# Altium integrated library Diodes - TVS.IntLib: 5379 symbols (part 45 of 122)
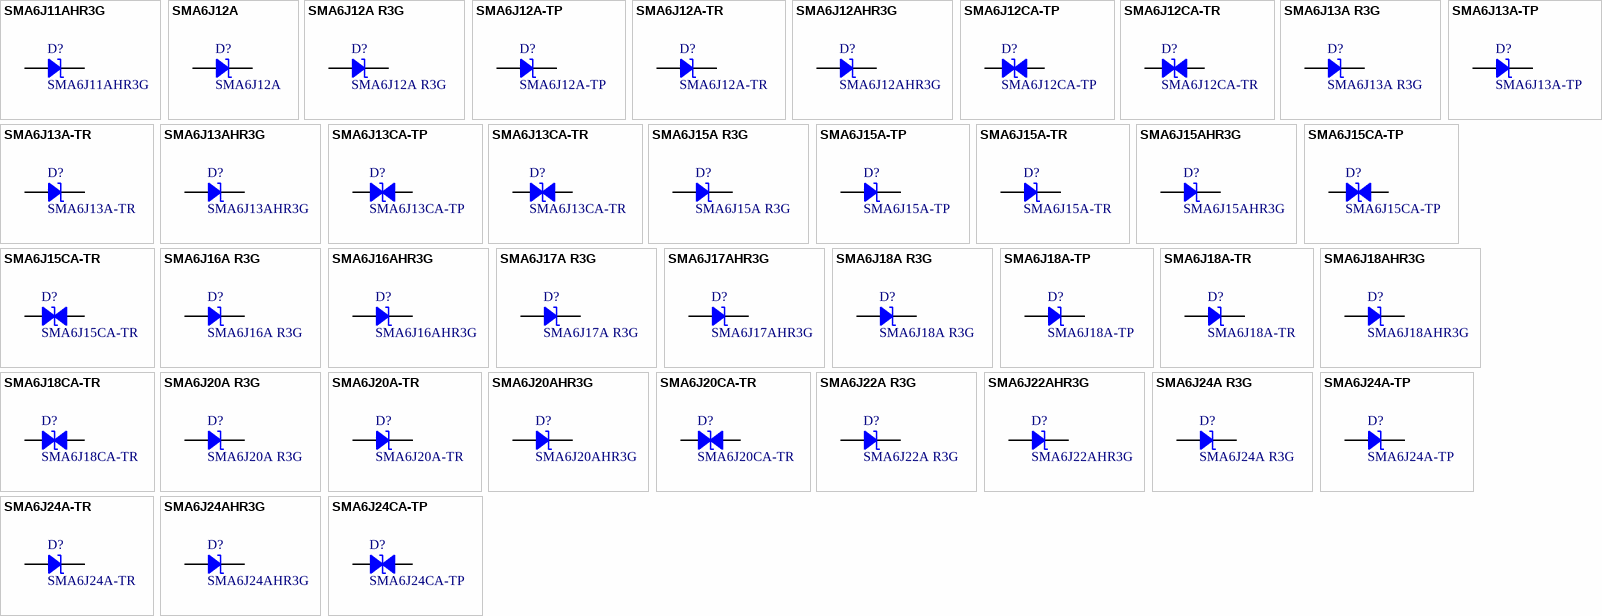
[diagram p178: symbols SMA6J11AHR3G to SMA6J24CA-TP]

## SMA6J15A-TR
designator D?
TVS DIODE 15V 27.7V SMA; Manufacturer: STMicroelectronics; Current - Peak Pulse (10/1000µs): 123A (8/20µs); Power Line Protection: No; Power - Peak Pulse: 600W; Type: Zener; Unidirectional Channels: 1; Voltage - Breakdown (Min): 16.7V; Part Number: SMA6J15A-TR; Applications: General Purpose; ComponentLink1Description: Datasheet; ComponentLink1URL: http://www.st.com/content/ccc/resource/technical/document/datasheet/56/26/d7/6f/22/8c/4e/b3/CD00152688.pdf/files/CD00152688.pdf/_jcr_content/translations/en.CD00152688.pdf; ComponentLink2Description: DigiKey Link; ComponentLink2URL: http://digikey.com/product-detail/en/stmicroelectronics/SMA6J15A-TR/497-5921-1-ND/1578427; LastUpdated: 9/2/2020 1:20:18 AM; Lifecycle Status: Active; Minimum Order: 1; Mounting Type: Surface Mount; Operating Temperature: -55°C ~ 175°C (TJ); Package / Case: DO-214AC, SMA; Packaging: TapeAndReel; PartId: 6136; Part Status: Active; Price: 0.18; Series: SMA6J, TRANSIL™; Supplier 1: DigiKey; Supplier Part Number 1: 497-5921-1-ND; Supplier Device Package: SMA (DO-214AC); Voltage - Clamping (Max) @ Ipp: 27.7V; Voltage - Reverse Standoff (Typ): 15V
footprint DO214AC SMA
pins: 1, 2

## SMA6J15AHR3G
designator D?
TVS DIODE 15V 23.6V DO214AC; Manufacturer: Taiwan Semiconductor Corporation; Current - Peak Pulse (10/1000µs): 25.4A; Power Line Protection: No; Power - Peak Pulse: 600W; Type: Zener; Unidirectional Channels: 1; Voltage - Breakdown (Min): 16.7V; Part Number: SMA6J15AHR3G; Applications: Automotive; ComponentLink1Description: Datasheet; ComponentLink1URL: https://www.taiwansemi.com/products/datasheet/SMA6J%20SERIES_D15.pdf; ComponentLink2Description: DigiKey Link; ComponentLink2URL: http://digikey.com/product-detail/en/taiwan-semiconductor-corporation/SMA6J15AHR3G/SMA6J15AHR3GCT-ND/7358724; LastUpdated: 9/2/2020 1:20:13 AM; Lifecycle Status: Active; Minimum Order: 1; Mounting Type: Surface Mount; Operating Temperature: -55°C ~ 175°C (TJ); Package / Case: DO-214AC, SMA; Packaging: TapeAndReel; PartId: 5579; Part Status: Active; Price: 0.13; Series: Automotive, AEC-Q101, SMA6J; Supplier 1: DigiKey; Supplier Part Number 1: SMA6J15AHR3GCT-ND; Supplier Device Package: DO-214AC (SMA); Voltage - Clamping (Max) @ Ipp: 23.6V; Voltage - Reverse Standoff (Typ): 15V
footprint DO214AC SMA
pins: 1, 2

## SMA6J15CA-TP
designator D?
TVS DIODE 15V 24.4V DO214AC; Manufacturer: Micro Commercial Co; Bidirectional Channels: 1; Current - Peak Pulse (10/1000µs): 24.6A; Power Line Protection: No; Power - Peak Pulse: 600W; Type: Zener; Voltage - Breakdown (Min): 16.7V; Part Number: SMA6J15CA-TP; Applications: General Purpose; ComponentLink1Description: Datasheet; ComponentLink1URL: https://www.mccsemi.com/pdf/Products/SMA6J5.0A~SMA6J33A(SMA).pdf; ComponentLink2Description: DigiKey Link; ComponentLink2URL: http://digikey.com/product-detail/en/micro-commercial-co/SMA6J15CA-TP/SMA6J15CA-TPMSCT-ND/2625100; LastUpdated: 9/2/2020 1:27:50 AM; Lifecycle Status: Active; Minimum Order: 1; Mounting Type: Surface Mount; Operating Temperature: -55°C ~ 175°C (TA); Package / Case: DO-214AC, SMA; Packaging: TapeAndReel; PartId: 7304; Part Status: Active; Price: 0.10; Series: -; Supplier 1: DigiKey; Supplier Part Number 1: SMA6J15CA-TPMSCT-ND; Supplier Device Package: DO-214AC (SMA); Voltage - Clamping (Max) @ Ipp: 24.4V; Voltage - Reverse Standoff (Typ): 15V
footprint DO214AC SMA
pins: 1, 2

## SMA6J15CA-TR
designator D?
TVS DIODE 15V 27.7V SMA; Manufacturer: STMicroelectronics; Bidirectional Channels: 1; Current - Peak Pulse (10/1000µs): 123A (8/20µs); Power Line Protection: No; Power - Peak Pulse: 600W; Type: Zener; Voltage - Breakdown (Min): 16.7V; Part Number: SMA6J15CA-TR; Applications: General Purpose; ComponentLink1Description: Datasheet; ComponentLink1URL: http://www.st.com/content/ccc/resource/technical/document/datasheet/56/26/d7/6f/22/8c/4e/b3/CD00152688.pdf/files/CD00152688.pdf/_jcr_content/translations/en.CD00152688.pdf; ComponentLink2Description: DigiKey Link; ComponentLink2URL: http://digikey.com/product-detail/en/stmicroelectronics/SMA6J15CA-TR/497-5922-1-ND/1578428; LastUpdated: 9/2/2020 1:27:51 AM; Lifecycle Status: Active; Minimum Order: 1; Mounting Type: Surface Mount; Operating Temperature: -55°C ~ 175°C (TJ); Package / Case: DO-214AC, SMA; Packaging: TapeAndReel; PartId: 7386; Part Status: Active; Price: 0.17; Series: SMA6J, TRANSIL™; Supplier 1: DigiKey; Supplier Part Number 1: 497-5922-1-ND; Supplier Device Package: SMA (DO-214AC); Voltage - Clamping (Max) @ Ipp: 27.7V; Voltage - Reverse Standoff (Typ): 15V
footprint DO214AC SMA
pins: 1, 2

## SMA6J16A R3G
designator D?
TVS DIODE 16V 25.2V DO214AC; Manufacturer: Taiwan Semiconductor Corporation; Current - Peak Pulse (10/1000µs): 23.8A; Power Line Protection: No; Power - Peak Pulse: 600W; Type: Zener; Unidirectional Channels: 1; Voltage - Breakdown (Min): 17.8V; Part Number: SMA6J16A R3G; Applications: General Purpose; ComponentLink1Description: Datasheet; ComponentLink1URL: https://www.taiwansemi.com/products/datasheet/SMA6J%20SERIES_D15.pdf; ComponentLink2Description: DigiKey Link; ComponentLink2URL: http://digikey.com/product-detail/en/taiwan-semiconductor-corporation/SMA6J16A-R3G/SMA6J16AR3GCT-ND/7358727; LastUpdated: 9/2/2020 1:20:16 AM; Lifecycle Status: Active; Minimum Order: 1; Mounting Type: Surface Mount; Operating Temperature: -55°C ~ 175°C (TJ); Package / Case: DO-214AC, SMA; Packaging: TapeAndReel; PartId: 5922; Part Status: Active; Price: 0.12; Series: SMA6J; Supplier 1: DigiKey; Supplier Part Number 1: SMA6J16AR3GCT-ND; Supplier Device Package: DO-214AC (SMA); Voltage - Clamping (Max) @ Ipp: 25.2V; Voltage - Reverse Standoff (Typ): 16V
footprint DO214AC SMA
pins: 1, 2

## SMA6J16AHR3G
designator D?
TVS DIODE 16V 25.2V DO214AC; Manufacturer: Taiwan Semiconductor Corporation; Current - Peak Pulse (10/1000µs): 23.8A; Power Line Protection: No; Power - Peak Pulse: 600W; Type: Zener; Unidirectional Channels: 1; Voltage - Breakdown (Min): 17.8V; Part Number: SMA6J16AHR3G; Applications: Automotive; ComponentLink1Description: Datasheet; ComponentLink1URL: https://www.taiwansemi.com/products/datasheet/SMA6J%20SERIES_D15.pdf; ComponentLink2Description: DigiKey Link; ComponentLink2URL: http://digikey.com/product-detail/en/taiwan-semiconductor-corporation/SMA6J16AHR3G/SMA6J16AHR3GCT-ND/7358730; LastUpdated: 9/2/2020 1:20:16 AM; Lifecycle Status: Active; Minimum Order: 1; Mounting Type: Surface Mount; Operating Temperature: -55°C ~ 175°C (TJ); Package / Case: DO-214AC, SMA; Packaging: TapeAndReel; PartId: 5969; Part Status: Active; Price: 0.13; Series: Automotive, AEC-Q101, SMA6J; Supplier 1: DigiKey; Supplier Part Number 1: SMA6J16AHR3GCT-ND; Supplier Device Package: DO-214AC (SMA); Voltage - Clamping (Max) @ Ipp: 25.2V; Voltage - Reverse Standoff (Typ): 16V
footprint DO214AC SMA
pins: 1, 2

## SMA6J17A R3G
designator D?
TVS DIODE 17V 26.7V DO214AC; Manufacturer: Taiwan Semiconductor Corporation; Current - Peak Pulse (10/1000µs): 22.5A; Power Line Protection: No; Power - Peak Pulse: 600W; Type: Zener; Unidirectional Channels: 1; Voltage - Breakdown (Min): 18.9V; Part Number: SMA6J17A R3G; Applications: General Purpose; ComponentLink1Description: Datasheet; ComponentLink1URL: https://www.taiwansemi.com/products/datasheet/SMA6J%20SERIES_D15.pdf; ComponentLink2Description: DigiKey Link; ComponentLink2URL: http://digikey.com/product-detail/en/taiwan-semiconductor-corporation/SMA6J17A-R3G/SMA6J17AR3GCT-ND/7358733; LastUpdated: 9/2/2020 1:20:16 AM; Lifecycle Status: Active; Minimum Order: 0; Mounting Type: Surface Mount; Operating Temperature: -55°C ~ 175°C (TJ); Package / Case: DO-214AC, SMA; Packaging: TapeAndReel; PartId: 5919; Part Status: Active; Price: 0.12; Series: SMA6J; Supplier 1: DigiKey; Supplier Part Number 1: SMA6J17AR3GCT-ND; Supplier Device Package: DO-214AC (SMA); Voltage - Clamping (Max) @ Ipp: 26.7V; Voltage - Reverse Standoff (Typ): 17V
footprint DO214AC SMA
pins: 1, 2

## SMA6J17AHR3G
designator D?
TVS DIODE 17V 26.7V DO214AC; Manufacturer: Taiwan Semiconductor Corporation; Current - Peak Pulse (10/1000µs): 22.5A; Power Line Protection: No; Power - Peak Pulse: 600W; Type: Zener; Unidirectional Channels: 1; Voltage - Breakdown (Min): 18.9V; Part Number: SMA6J17AHR3G; Applications: Automotive; ComponentLink1Description: Datasheet; ComponentLink1URL: https://www.taiwansemi.com/products/datasheet/SMA6J%20SERIES_D15.pdf; ComponentLink2Description: DigiKey Link; ComponentLink2URL: http://digikey.com/product-detail/en/taiwan-semiconductor-corporation/SMA6J17AHR3G/SMA6J17AHR3GCT-ND/7358736; LastUpdated: 9/2/2020 1:20:16 AM; Lifecycle Status: Active; Minimum Order: 1; Mounting Type: Surface Mount; Operating Temperature: -55°C ~ 175°C (TJ); Package / Case: DO-214AC, SMA; Packaging: TapeAndReel; PartId: 5916; Part Status: Active; Price: 0.13; Series: Automotive, AEC-Q101, SMA6J; Supplier 1: DigiKey; Supplier Part Number 1: SMA6J17AHR3GCT-ND; Supplier Device Package: DO-214AC (SMA); Voltage - Clamping (Max) @ Ipp: 26.7V; Voltage - Reverse Standoff (Typ): 17V
footprint DO214AC SMA
pins: 1, 2

## SMA6J18A R3G
designator D?
TVS DIODE 18V 28.3V DO214AC; Manufacturer: Taiwan Semiconductor Corporation; Current - Peak Pulse (10/1000µs): 21.2A; Power Line Protection: No; Power - Peak Pulse: 600W; Type: Zener; Unidirectional Channels: 1; Voltage - Breakdown (Min): 20V; Part Number: SMA6J18A R3G; Applications: General Purpose; ComponentLink1Description: Datasheet; ComponentLink1URL: https://www.taiwansemi.com/products/datasheet/SMA6J%20SERIES_D15.pdf; ComponentLink2Description: DigiKey Link; ComponentLink2URL: http://digikey.com/product-detail/en/taiwan-semiconductor-corporation/SMA6J18A-R3G/SMA6J18AR3GCT-ND/7358739; LastUpdated: 9/2/2020 1:20:16 AM; Lifecycle Status: Active; Minimum Order: 1; Mounting Type: Surface Mount; Operating Temperature: -55°C ~ 175°C (TJ); Package / Case: DO-214AC, SMA; Packaging: TapeAndReel; PartId: 5891; Part Status: Active; Price: 0.12; Series: SMA6J; Supplier 1: DigiKey; Supplier Part Number 1: SMA6J18AR3GCT-ND; Supplier Device Package: DO-214AC (SMA); Voltage - Clamping (Max) @ Ipp: 28.3V; Voltage - Reverse Standoff (Typ): 18V
footprint DO214AC SMA
pins: 1, 2

## SMA6J18A-TP
designator D?
TVS DIODE 18V 29.2V DO214AC; Manufacturer: Micro Commercial Co; Current - Peak Pulse (10/1000µs): 20.5A; Power Line Protection: No; Power - Peak Pulse: 600W; Type: Zener; Unidirectional Channels: 1; Voltage - Breakdown (Min): 20V; Part Number: SMA6J18A-TP; Applications: General Purpose; ComponentLink1Description: Datasheet; ComponentLink1URL: https://www.mccsemi.com/pdf/Products/SMA6J5.0A~SMA6J33A(SMA).pdf; ComponentLink2Description: DigiKey Link; ComponentLink2URL: http://digikey.com/product-detail/en/micro-commercial-co/SMA6J18A-TP/SMA6J18A-TPMSCT-ND/2625102; LastUpdated: 9/2/2020 1:20:13 AM; Lifecycle Status: Active; Minimum Order: 1; Mounting Type: Surface Mount; Operating Temperature: -55°C ~ 175°C (TA); Package / Case: DO-214AC, SMA; Packaging: TapeAndReel; PartId: 5575; Part Status: Active; Price: 0.10; Series: -; Supplier 1: DigiKey; Supplier Part Number 1: SMA6J18A-TPMSCT-ND; Supplier Device Package: DO-214AC (SMA); Voltage - Clamping (Max) @ Ipp: 29.2V; Voltage - Reverse Standoff (Typ): 18V
footprint DO214AC SMA
pins: 1, 2

## SMA6J18A-TR
designator D?
TVS DIODE 18V 33.2V SMA; Manufacturer: STMicroelectronics; Current - Peak Pulse (10/1000µs): 102A (8/20µs); Power Line Protection: No; Power - Peak Pulse: 600W; Type: Zener; Unidirectional Channels: 1; Voltage - Breakdown (Min): 20V; Part Number: SMA6J18A-TR; Applications: General Purpose; ComponentLink1Description: Datasheet; ComponentLink1URL: http://www.st.com/content/ccc/resource/technical/document/datasheet/56/26/d7/6f/22/8c/4e/b3/CD00152688.pdf/files/CD00152688.pdf/_jcr_content/translations/en.CD00152688.pdf; ComponentLink2Description: DigiKey Link; ComponentLink2URL: http://digikey.com/product-detail/en/stmicroelectronics/SMA6J18A-TR/497-5923-1-ND/1578429; LastUpdated: 9/2/2020 1:20:14 AM; Lifecycle Status: Active; Minimum Order: 1; Mounting Type: Surface Mount; Operating Temperature: -55°C ~ 175°C (TJ); Package / Case: DO-214AC, SMA; Packaging: TapeAndReel; PartId: 5733; Part Status: Active; Price: 0.16; Series: SMA6J, TRANSIL™; Supplier 1: DigiKey; Supplier Part Number 1: 497-5923-1-ND; Supplier Device Package: SMA (DO-214AC); Voltage - Clamping (Max) @ Ipp: 33.2V; Voltage - Reverse Standoff (Typ): 18V
footprint DO214AC SMA
pins: 1, 2

## SMA6J18AHR3G
designator D?
TVS DIODE 18V 28.3V DO214AC; Manufacturer: Taiwan Semiconductor Corporation; Current - Peak Pulse (10/1000µs): 21.2A; Power Line Protection: No; Power - Peak Pulse: 600W; Type: Zener; Unidirectional Channels: 1; Voltage - Breakdown (Min): 20V; Part Number: SMA6J18AHR3G; Applications: Automotive; ComponentLink1Description: Datasheet; ComponentLink1URL: https://www.taiwansemi.com/products/datasheet/SMA6J%20SERIES_D15.pdf; ComponentLink2Description: DigiKey Link; ComponentLink2URL: http://digikey.com/product-detail/en/taiwan-semiconductor-corporation/SMA6J18AHR3G/SMA6J18AHR3GCT-ND/7358742; LastUpdated: 9/2/2020 1:20:14 AM; Lifecycle Status: Active; Minimum Order: 1; Mounting Type: Surface Mount; Operating Temperature: -55°C ~ 175°C (TJ); Package / Case: DO-214AC, SMA; Packaging: TapeAndReel; PartId: 5669; Part Status: Active; Price: 0.13; Series: Automotive, AEC-Q101, SMA6J; Supplier 1: DigiKey; Supplier Part Number 1: SMA6J18AHR3GCT-ND; Supplier Device Package: DO-214AC (SMA); Voltage - Clamping (Max) @ Ipp: 28.3V; Voltage - Reverse Standoff (Typ): 18V
footprint DO214AC SMA
pins: 1, 2

## SMA6J18CA-TR
designator D?
TVS DIODE 18V 33.2V SMA; Manufacturer: STMicroelectronics; Bidirectional Channels: 1; Current - Peak Pulse (10/1000µs): 102A (8/20µs); Power Line Protection: No; Power - Peak Pulse: 600W; Type: Zener; Voltage - Breakdown (Min): 20V; Part Number: SMA6J18CA-TR; Applications: General Purpose; ComponentLink1Description: Datasheet; ComponentLink1URL: http://www.st.com/content/ccc/resource/technical/document/datasheet/56/26/d7/6f/22/8c/4e/b3/CD00152688.pdf/files/CD00152688.pdf/_jcr_content/translations/en.CD00152688.pdf; ComponentLink2Description: DigiKey Link; ComponentLink2URL: http://digikey.com/product-detail/en/stmicroelectronics/SMA6J18CA-TR/497-5924-1-ND/1578430; LastUpdated: 9/2/2020 1:27:50 AM; Lifecycle Status: Active; Minimum Order: 1; Mounting Type: Surface Mount; Operating Temperature: -55°C ~ 175°C (TJ); Package / Case: DO-214AC, SMA; Packaging: TapeAndReel; PartId: 7329; Part Status: Active; Price: 0.17; Series: SMA6J, TRANSIL™; Supplier 1: DigiKey; Supplier Part Number 1: 497-5924-1-ND; Supplier Device Package: SMA (DO-214AC); Voltage - Clamping (Max) @ Ipp: 33.2V; Voltage - Reverse Standoff (Typ): 18V
footprint DO214AC SMA
pins: 1, 2

## SMA6J20A R3G
designator D?
TVS DIODE 20V 31.4V DO214AC; Manufacturer: Taiwan Semiconductor Corporation; Current - Peak Pulse (10/1000µs): 19.1A; Power Line Protection: No; Power - Peak Pulse: 600W; Type: Zener; Unidirectional Channels: 1; Voltage - Breakdown (Min): 22.2V; Part Number: SMA6J20A R3G; Applications: General Purpose; ComponentLink1Description: Datasheet; ComponentLink1URL: https://www.taiwansemi.com/products/datasheet/SMA6J%20SERIES_D15.pdf; ComponentLink2Description: DigiKey Link; ComponentLink2URL: http://digikey.com/product-detail/en/taiwan-semiconductor-corporation/SMA6J20A-R3G/SMA6J20AR3GCT-ND/7358745; LastUpdated: 9/2/2020 1:20:16 AM; Lifecycle Status: Active; Minimum Order: 1; Mounting Type: Surface Mount; Operating Temperature: -55°C ~ 175°C (TJ); Package / Case: DO-214AC, SMA; Packaging: TapeAndReel; PartId: 5918; Part Status: Active; Price: 0.12; Series: SMA6J; Supplier 1: DigiKey; Supplier Part Number 1: SMA6J20AR3GCT-ND; Supplier Device Package: DO-214AC (SMA); Voltage - Clamping (Max) @ Ipp: 31.4V; Voltage - Reverse Standoff (Typ): 20V
footprint DO214AC SMA
pins: 1, 2

## SMA6J20A-TR
designator D?
TVS DIODE 20V 36.8V SMA; Manufacturer: STMicroelectronics; Current - Peak Pulse (10/1000µs): 93A (8/20µs); Power Line Protection: No; Power - Peak Pulse: 600W; Type: Zener; Unidirectional Channels: 1; Voltage - Breakdown (Min): 22.2V; Part Number: SMA6J20A-TR; Applications: General Purpose; ComponentLink1Description: Datasheet; ComponentLink1URL: http://www.st.com/content/ccc/resource/technical/document/datasheet/56/26/d7/6f/22/8c/4e/b3/CD00152688.pdf/files/CD00152688.pdf/_jcr_content/translations/en.CD00152688.pdf; ComponentLink2Description: DigiKey Link; ComponentLink2URL: http://digikey.com/product-detail/en/stmicroelectronics/SMA6J20A-TR/497-5925-1-ND/1578431; LastUpdated: 9/2/2020 1:20:14 AM; Lifecycle Status: Active; Minimum Order: 1; Mounting Type: Surface Mount; Operating Temperature: -55°C ~ 175°C (TJ); Package / Case: DO-214AC, SMA; Packaging: TapeAndReel; PartId: 5685; Part Status: Active; Price: 0.16; Series: SMA6J, TRANSIL™; Supplier 1: DigiKey; Supplier Part Number 1: 497-5925-1-ND; Supplier Device Package: SMA (DO-214AC); Voltage - Clamping (Max) @ Ipp: 36.8V; Voltage - Reverse Standoff (Typ): 20V
footprint DO214AC SMA
pins: 1, 2

## SMA6J20AHR3G
designator D?
TVS DIODE 20V 31.4V DO214AC; Manufacturer: Taiwan Semiconductor Corporation; Current - Peak Pulse (10/1000µs): 19.1A; Power Line Protection: No; Power - Peak Pulse: 600W; Type: Zener; Unidirectional Channels: 1; Voltage - Breakdown (Min): 22.2V; Part Number: SMA6J20AHR3G; Applications: Automotive; ComponentLink1Description: Datasheet; ComponentLink1URL: https://www.taiwansemi.com/products/datasheet/SMA6J%20SERIES_D15.pdf; ComponentLink2Description: DigiKey Link; ComponentLink2URL: http://digikey.com/product-detail/en/taiwan-semiconductor-corporation/SMA6J20AHR3G/SMA6J20AHR3GCT-ND/7358748; LastUpdated: 9/2/2020 1:20:16 AM; Lifecycle Status: Active; Minimum Order: 1; Mounting Type: Surface Mount; Operating Temperature: -55°C ~ 175°C (TJ); Package / Case: DO-214AC, SMA; Packaging: TapeAndReel; PartId: 5915; Part Status: Active; Price: 0.13; Series: Automotive, AEC-Q101, SMA6J; Supplier 1: DigiKey; Supplier Part Number 1: SMA6J20AHR3GCT-ND; Supplier Device Package: DO-214AC (SMA); Voltage - Clamping (Max) @ Ipp: 31.4V; Voltage - Reverse Standoff (Typ): 20V
footprint DO214AC SMA
pins: 1, 2

## SMA6J20CA-TR
designator D?
TVS DIODE 20V 36.8V SMA; Manufacturer: STMicroelectronics; Bidirectional Channels: 1; Current - Peak Pulse (10/1000µs): 93A (8/20µs); Power Line Protection: No; Power - Peak Pulse: 600W; Type: Zener; Voltage - Breakdown (Min): 22.2V; Part Number: SMA6J20CA-TR; Applications: General Purpose; ComponentLink1Description: Datasheet; ComponentLink1URL: http://www.st.com/content/ccc/resource/technical/document/datasheet/56/26/d7/6f/22/8c/4e/b3/CD00152688.pdf/files/CD00152688.pdf/_jcr_content/translations/en.CD00152688.pdf; ComponentLink2Description: DigiKey Link; ComponentLink2URL: http://digikey.com/product-detail/en/stmicroelectronics/SMA6J20CA-TR/497-5926-1-ND/1578432; LastUpdated: 9/2/2020 1:27:50 AM; Lifecycle Status: Active; Minimum Order: 1; Mounting Type: Surface Mount; Operating Temperature: -55°C ~ 175°C (TJ); Package / Case: DO-214AC, SMA; Packaging: TapeAndReel; PartId: 7327; Part Status: Active; Price: 0.18; Series: SMA6J, TRANSIL™; Supplier 1: DigiKey; Supplier Part Number 1: 497-5926-1-ND; Supplier Device Package: SMA (DO-214AC); Voltage - Clamping (Max) @ Ipp: 36.8V; Voltage - Reverse Standoff (Typ): 20V
footprint DO214AC SMA
pins: 1, 2

## SMA6J22A R3G
designator D?
TVS DIODE 22V 34.5V DO214AC; Manufacturer: Taiwan Semiconductor Corporation; Current - Peak Pulse (10/1000µs): 17.4A; Power Line Protection: No; Power - Peak Pulse: 600W; Type: Zener; Unidirectional Channels: 1; Voltage - Breakdown (Min): 24.4V; Part Number: SMA6J22A R3G; Applications: General Purpose; ComponentLink1Description: Datasheet; ComponentLink1URL: https://www.taiwansemi.com/products/datasheet/SMA6J%20SERIES_D15.pdf; ComponentLink2Description: DigiKey Link; ComponentLink2URL: http://digikey.com/product-detail/en/taiwan-semiconductor-corporation/SMA6J22A-R3G/SMA6J22AR3GCT-ND/7358751; LastUpdated: 9/2/2020 1:20:13 AM; Lifecycle Status: Active; Minimum Order: 1; Mounting Type: Surface Mount; Operating Temperature: -55°C ~ 175°C (TJ); Package / Case: DO-214AC, SMA; Packaging: TapeAndReel; PartId: 5581; Part Status: Active; Price: 0.12; Series: SMA6J; Supplier 1: DigiKey; Supplier Part Number 1: SMA6J22AR3GCT-ND; Supplier Device Package: DO-214AC (SMA); Voltage - Clamping (Max) @ Ipp: 34.5V; Voltage - Reverse Standoff (Typ): 22V
footprint DO214AC SMA
pins: 1, 2

## SMA6J22AHR3G
designator D?
TVS DIODE 22V 34.5V DO214AC; Manufacturer: Taiwan Semiconductor Corporation; Current - Peak Pulse (10/1000µs): 17.4A; Power Line Protection: No; Power - Peak Pulse: 600W; Type: Zener; Unidirectional Channels: 1; Voltage - Breakdown (Min): 24.4V; Part Number: SMA6J22AHR3G; Applications: Automotive; ComponentLink1Description: Datasheet; ComponentLink1URL: https://www.taiwansemi.com/products/datasheet/SMA6J%20SERIES_D15.pdf; ComponentLink2Description: DigiKey Link; ComponentLink2URL: http://digikey.com/product-detail/en/taiwan-semiconductor-corporation/SMA6J22AHR3G/SMA6J22AHR3GCT-ND/7358754; LastUpdated: 9/2/2020 1:20:16 AM; Lifecycle Status: Active; Minimum Order: 0; Mounting Type: Surface Mount; Operating Temperature: -55°C ~ 175°C (TJ); Package / Case: DO-214AC, SMA; Packaging: TapeAndReel; PartId: 5914; Part Status: Active; Price: 0.13; Series: Automotive, AEC-Q101, SMA6J; Supplier 1: DigiKey; Supplier Part Number 1: SMA6J22AHR3GCT-ND; Supplier Device Package: DO-214AC (SMA); Voltage - Clamping (Max) @ Ipp: 34.5V; Voltage - Reverse Standoff (Typ): 22V
footprint DO214AC SMA
pins: 1, 2

## SMA6J24A R3G
designator D?
TVS DIODE 24V 37.8V DO214AC; Manufacturer: Taiwan Semiconductor Corporation; Current - Peak Pulse (10/1000µs): 15.9A; Power Line Protection: No; Power - Peak Pulse: 600W; Type: Zener; Unidirectional Channels: 1; Voltage - Breakdown (Min): 26.7V; Part Number: SMA6J24A R3G; Applications: General Purpose; ComponentLink1Description: Datasheet; ComponentLink1URL: https://www.taiwansemi.com/products/datasheet/SMA6J%20SERIES_D15.pdf; ComponentLink2Description: DigiKey Link; ComponentLink2URL: http://digikey.com/product-detail/en/taiwan-semiconductor-corporation/SMA6J24A-R3G/SMA6J24AR3GCT-ND/7358757; LastUpdated: 9/2/2020 1:20:13 AM; Lifecycle Status: Active; Minimum Order: 1; Mounting Type: Surface Mount; Operating Temperature: -55°C ~ 175°C (TJ); Package / Case: DO-214AC, SMA; Packaging: TapeAndReel; PartId: 5580; Part Status: Active; Price: 0.12; Series: SMA6J; Supplier 1: DigiKey; Supplier Part Number 1: SMA6J24AR3GCT-ND; Supplier Device Package: DO-214AC (SMA); Voltage - Clamping (Max) @ Ipp: 37.8V; Voltage - Reverse Standoff (Typ): 24V
footprint DO214AC SMA
pins: 1, 2

## SMA6J24A-TP
designator D?
TVS DIODE 24V 38.9V DO214AC; Manufacturer: Micro Commercial Co; Current - Peak Pulse (10/1000µs): 15.4A; Power Line Protection: No; Power - Peak Pulse: 600W; Type: Zener; Unidirectional Channels: 1; Voltage - Breakdown (Min): 26.7V; Part Number: SMA6J24A-TP; Applications: General Purpose; ComponentLink1Description: Datasheet; ComponentLink1URL: https://www.mccsemi.com/pdf/Products/SMA6J5.0A~SMA6J33A(SMA).pdf; ComponentLink2Description: DigiKey Link; ComponentLink2URL: http://digikey.com/product-detail/en/micro-commercial-co/SMA6J24A-TP/SMA6J24A-TPMSCT-ND/2625106; LastUpdated: 9/2/2020 1:20:15 AM; Lifecycle Status: Active; Minimum Order: 1; Mounting Type: Surface Mount; Operating Temperature: -55°C ~ 175°C (TA); Package / Case: DO-214AC, SMA; Packaging: TapeAndReel; PartId: 5865; Part Status: Active; Price: 0.10; Series: -; Supplier 1: DigiKey; Supplier Part Number 1: SMA6J24A-TPMSCT-ND; Supplier Device Package: DO-214AC (SMA); Voltage - Clamping (Max) @ Ipp: 38.9V; Voltage - Reverse Standoff (Typ): 24V
footprint DO214AC SMA
pins: 1, 2

## SMA6J24A-TR
designator D?
TVS DIODE 24V 44.3V SMA; Manufacturer: STMicroelectronics; Current - Peak Pulse (10/1000µs): 80A (8/20µs); Power Line Protection: No; Power - Peak Pulse: 600W; Type: Zener; Unidirectional Channels: 1; Voltage - Breakdown (Min): 26.7V; Part Number: SMA6J24A-TR; Applications: General Purpose; ComponentLink1Description: Datasheet; ComponentLink1URL: http://www.st.com/content/ccc/resource/technical/document/datasheet/56/26/d7/6f/22/8c/4e/b3/CD00152688.pdf/files/CD00152688.pdf/_jcr_content/translations/en.CD00152688.pdf; ComponentLink2Description: DigiKey Link; ComponentLink2URL: http://digikey.com/product-detail/en/stmicroelectronics/SMA6J24A-TR/497-5927-1-ND/1578433; LastUpdated: 9/2/2020 1:20:14 AM; Lifecycle Status: Active; Minimum Order: 1; Mounting Type: Surface Mount; Operating Temperature: -55°C ~ 175°C (TJ); Package / Case: DO-214AC, SMA; Packaging: TapeAndReel; PartId: 5691; Part Status: Active; Price: 0.16; Series: SMA6J, TRANSIL™; Supplier 1: DigiKey; Supplier Part Number 1: 497-5927-1-ND; Supplier Device Package: SMA (DO-214AC); Voltage - Clamping (Max) @ Ipp: 44.3V; Voltage - Reverse Standoff (Typ): 24V
footprint DO214AC SMA
pins: 1, 2

## SMA6J24AHR3G
designator D?
TVS DIODE 24V 37.8V DO214AC; Manufacturer: Taiwan Semiconductor Corporation; Current - Peak Pulse (10/1000µs): 15.9A; Power Line Protection: No; Power - Peak Pulse: 600W; Type: Zener; Unidirectional Channels: 1; Voltage - Breakdown (Min): 26.7V; Part Number: SMA6J24AHR3G; Applications: Automotive; ComponentLink1Description: Datasheet; ComponentLink1URL: https://www.taiwansemi.com/products/datasheet/SMA6J%20SERIES_D15.pdf; ComponentLink2Description: DigiKey Link; ComponentLink2URL: http://digikey.com/product-detail/en/taiwan-semiconductor-corporation/SMA6J24AHR3G/SMA6J24AHR3GCT-ND/7358760; LastUpdated: 9/2/2020 1:20:13 AM; Lifecycle Status: Active; Minimum Order: 1; Mounting Type: Surface Mount; Operating Temperature: -55°C ~ 175°C (TJ); Package / Case: DO-214AC, SMA; Packaging: TapeAndReel; PartId: 5578; Part Status: Active; Price: 0.13; Series: Automotive, AEC-Q101, SMA6J; Supplier 1: DigiKey; Supplier Part Number 1: SMA6J24AHR3GCT-ND; Supplier Device Package: DO-214AC (SMA); Voltage - Clamping (Max) @ Ipp: 37.8V; Voltage - Reverse Standoff (Typ): 24V
footprint DO214AC SMA
pins: 1, 2

## SMA6J24CA-TP
designator D?
TVS DIODE 24V 38.9V DO214AC; Manufacturer: Micro Commercial Co; Bidirectional Channels: 1; Current - Peak Pulse (10/1000µs): 15.4A; Power Line Protection: No; Power - Peak Pulse: 600W; Type: Zener; Voltage - Breakdown (Min): 26.7V; Part Number: SMA6J24CA-TP; Applications: General Purpose; ComponentLink1Description: Datasheet; ComponentLink1URL: https://www.mccsemi.com/pdf/Products/SMA6J5.0A~SMA6J33A(SMA).pdf; ComponentLink2Description: DigiKey Link; ComponentLink2URL: http://digikey.com/product-detail/en/micro-commercial-co/SMA6J24CA-TP/SMA6J24CA-TPMSCT-ND/2625107; LastUpdated: 9/2/2020 1:27:50 AM; Lifecycle Status: Active; Minimum Order: 1; Mounting Type: Surface Mount; Operating Temperature: -55°C ~ 175°C (TA); Package / Case: DO-214AC, SMA; Packaging: TapeAndReel; PartId: 7280; Part Status: Active; Price: 0.10; Series: -; Supplier 1: DigiKey; Supplier Part Number 1: SMA6J24CA-TPMSCT-ND; Supplier Device Package: DO-214AC (SMA); Voltage - Clamping (Max) @ Ipp: 38.9V; Voltage - Reverse Standoff (Typ): 24V
footprint DO214AC SMA
pins: 1, 2

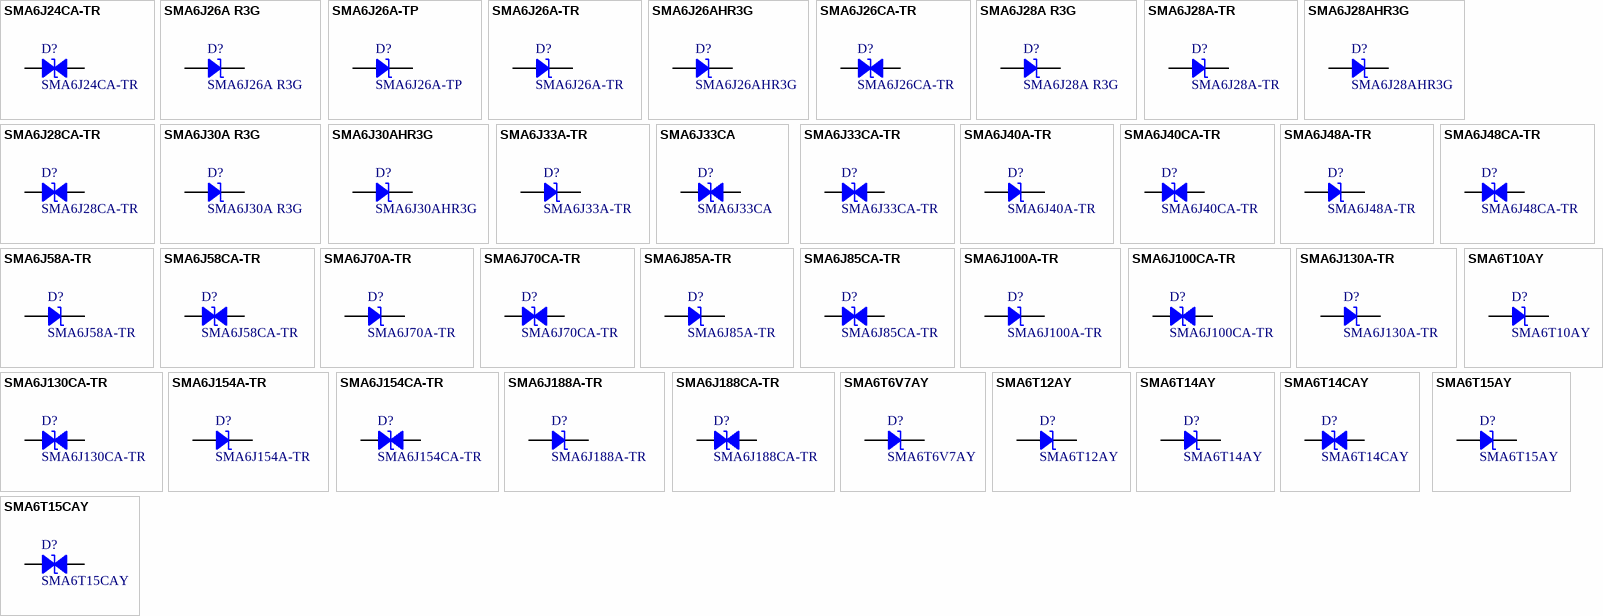
[diagram p49: symbols SMA6J24CA-TR to SMA6T15CAY]

## SMA6J24CA-TR
designator D?
TVS DIODE 24V 44.3V SMA; Manufacturer: STMicroelectronics; Bidirectional Channels: 1; Current - Peak Pulse (10/1000µs): 80A (8/20µs); Power Line Protection: No; Power - Peak Pulse: 600W; Type: Zener; Voltage - Breakdown (Min): 26.7V; Part Number: SMA6J24CA-TR; Applications: General Purpose; ComponentLink1Description: Datasheet; ComponentLink1URL: http://www.st.com/content/ccc/resource/technical/document/datasheet/56/26/d7/6f/22/8c/4e/b3/CD00152688.pdf/files/CD00152688.pdf/_jcr_content/translations/en.CD00152688.pdf; ComponentLink2Description: DigiKey Link; ComponentLink2URL: http://digikey.com/product-detail/en/stmicroelectronics/SMA6J24CA-TR/497-5928-1-ND/1578434; LastUpdated: 9/2/2020 1:27:55 AM; Lifecycle Status: Active; Minimum Order: 1; Mounting Type: Surface Mount; Operating Temperature: -55°C ~ 175°C (TJ); Package / Case: DO-214AC, SMA; Packaging: TapeAndReel; PartId: 7829; Part Status: Active; Price: 0.17; Series: SMA6J, TRANSIL™; Supplier 1: DigiKey; Supplier Part Number 1: 497-5928-1-ND; Supplier Device Package: SMA (DO-214AC); Voltage - Clamping (Max) @ Ipp: 44.3V; Voltage - Reverse Standoff (Typ): 24V
footprint DO214AC SMA
pins: 1, 2

## SMA6J26A R3G
designator D?
TVS DIODE 26V 40.9V DO214AC; Manufacturer: Taiwan Semiconductor Corporation; Current - Peak Pulse (10/1000µs): 14.7A; Power Line Protection: No; Power - Peak Pulse: 600W; Type: Zener; Unidirectional Channels: 1; Voltage - Breakdown (Min): 28.9V; Part Number: SMA6J26A R3G; Applications: General Purpose; ComponentLink1Description: Datasheet; ComponentLink1URL: https://www.taiwansemi.com/products/datasheet/SMA6J%20SERIES_D15.pdf; ComponentLink2Description: DigiKey Link; ComponentLink2URL: http://digikey.com/product-detail/en/taiwan-semiconductor-corporation/SMA6J26A-R3G/SMA6J26AR3GCT-ND/7358763; LastUpdated: 9/2/2020 1:20:13 AM; Lifecycle Status: Active; Minimum Order: 1; Mounting Type: Surface Mount; Operating Temperature: -55°C ~ 175°C (TJ); Package / Case: DO-214AC, SMA; Packaging: TapeAndReel; PartId: 5584; Part Status: Active; Price: 0.12; Series: SMA6J; Supplier 1: DigiKey; Supplier Part Number 1: SMA6J26AR3GCT-ND; Supplier Device Package: DO-214AC (SMA); Voltage - Clamping (Max) @ Ipp: 40.9V; Voltage - Reverse Standoff (Typ): 26V
footprint DO214AC SMA
pins: 1, 2

## SMA6J26A-TP
designator D?
TVS DIODE 26V 42.1V DO214AC; Manufacturer: Micro Commercial Co; Current - Peak Pulse (10/1000µs): 14.3A; Power Line Protection: No; Power - Peak Pulse: 600W; Type: Zener; Unidirectional Channels: 1; Voltage - Breakdown (Min): 28.9V; Part Number: SMA6J26A-TP; Applications: General Purpose; ComponentLink1Description: Datasheet; ComponentLink1URL: https://www.mccsemi.com/pdf/Products/SMA6J5.0A~SMA6J33A(SMA).pdf; ComponentLink2Description: DigiKey Link; ComponentLink2URL: http://digikey.com/product-detail/en/micro-commercial-co/SMA6J26A-TP/SMA6J26A-TPMSCT-ND/2625110; LastUpdated: 9/2/2020 1:20:16 AM; Lifecycle Status: Active; Minimum Order: 1; Mounting Type: Surface Mount; Operating Temperature: -55°C ~ 175°C (TA); Package / Case: DO-214AC, SMA; Packaging: TapeAndReel; PartId: 5897; Part Status: Active; Price: 0.10; Series: -; Supplier 1: DigiKey; Supplier Part Number 1: SMA6J26A-TPMSCT-ND; Supplier Device Package: DO-214AC (SMA); Voltage - Clamping (Max) @ Ipp: 42.1V; Voltage - Reverse Standoff (Typ): 26V
footprint DO214AC SMA
pins: 1, 2

## SMA6J26A-TR
designator D?
TVS DIODE 26V 47.9V SMA; Manufacturer: STMicroelectronics; Current - Peak Pulse (10/1000µs): 75A (8/20µs); Power Line Protection: No; Power - Peak Pulse: 600W; Type: Zener; Unidirectional Channels: 1; Voltage - Breakdown (Min): 28.9V; Part Number: SMA6J26A-TR; Applications: General Purpose; ComponentLink1Description: Datasheet; ComponentLink1URL: http://www.st.com/content/ccc/resource/technical/document/datasheet/56/26/d7/6f/22/8c/4e/b3/CD00152688.pdf/files/CD00152688.pdf/_jcr_content/translations/en.CD00152688.pdf; ComponentLink2Description: DigiKey Link; ComponentLink2URL: http://digikey.com/product-detail/en/stmicroelectronics/SMA6J26A-TR/497-5929-1-ND/1578435; LastUpdated: 9/2/2020 1:20:14 AM; Lifecycle Status: Active; Minimum Order: 1; Mounting Type: Surface Mount; Operating Temperature: -55°C ~ 175°C (TJ); Package / Case: DO-214AC, SMA; Packaging: TapeAndReel; PartId: 5692; Part Status: Active; Price: 0.16; Series: SMA6J, TRANSIL™; Supplier 1: DigiKey; Supplier Part Number 1: 497-5929-1-ND; Supplier Device Package: SMA (DO-214AC); Voltage - Clamping (Max) @ Ipp: 47.9V; Voltage - Reverse Standoff (Typ): 26V
footprint DO214AC SMA
pins: 1, 2

## SMA6J26AHR3G
designator D?
TVS DIODE 26V 40.9V DO214AC; Manufacturer: Taiwan Semiconductor Corporation; Current - Peak Pulse (10/1000µs): 14.7A; Power Line Protection: No; Power - Peak Pulse: 600W; Type: Zener; Unidirectional Channels: 1; Voltage - Breakdown (Min): 28.9V; Part Number: SMA6J26AHR3G; Applications: Automotive; ComponentLink1Description: Datasheet; ComponentLink1URL: https://www.taiwansemi.com/products/datasheet/SMA6J%20SERIES_D15.pdf; ComponentLink2Description: DigiKey Link; ComponentLink2URL: http://digikey.com/product-detail/en/taiwan-semiconductor-corporation/SMA6J26AHR3G/SMA6J26AHR3GCT-ND/7358766; LastUpdated: 9/2/2020 1:20:13 AM; Lifecycle Status: Active; Minimum Order: 1; Mounting Type: Surface Mount; Operating Temperature: -55°C ~ 175°C (TJ); Package / Case: DO-214AC, SMA; Packaging: TapeAndReel; PartId: 5577; Part Status: Active; Price: 0.13; Series: Automotive, AEC-Q101, SMA6J; Supplier 1: DigiKey; Supplier Part Number 1: SMA6J26AHR3GCT-ND; Supplier Device Package: DO-214AC (SMA); Voltage - Clamping (Max) @ Ipp: 40.9V; Voltage - Reverse Standoff (Typ): 26V
footprint DO214AC SMA
pins: 1, 2

## SMA6J26CA-TR
designator D?
TVS DIODE 26V 47.9V SMA; Manufacturer: STMicroelectronics; Bidirectional Channels: 1; Current - Peak Pulse (10/1000µs): 75A (8/20µs); Power Line Protection: No; Power - Peak Pulse: 600W; Type: Zener; Voltage - Breakdown (Min): 28.9V; Part Number: SMA6J26CA-TR; Applications: General Purpose; ComponentLink1Description: Datasheet; ComponentLink1URL: http://www.st.com/content/ccc/resource/technical/document/datasheet/56/26/d7/6f/22/8c/4e/b3/CD00152688.pdf/files/CD00152688.pdf/_jcr_content/translations/en.CD00152688.pdf; ComponentLink2Description: DigiKey Link; ComponentLink2URL: http://digikey.com/product-detail/en/stmicroelectronics/SMA6J26CA-TR/497-5930-1-ND/1578436; LastUpdated: 9/2/2020 1:27:50 AM; Lifecycle Status: Active; Minimum Order: 1; Mounting Type: Surface Mount; Operating Temperature: -55°C ~ 175°C (TJ); Package / Case: DO-214AC, SMA; Packaging: TapeAndReel; PartId: 7328; Part Status: Active; Price: 0.17; Series: SMA6J, TRANSIL™; Supplier 1: DigiKey; Supplier Part Number 1: 497-5930-1-ND; Supplier Device Package: SMA (DO-214AC); Voltage - Clamping (Max) @ Ipp: 47.9V; Voltage - Reverse Standoff (Typ): 26V
footprint DO214AC SMA
pins: 1, 2

## SMA6J28A R3G
designator D?
TVS DIODE 28V 44V DO214AC; Manufacturer: Taiwan Semiconductor Corporation; Current - Peak Pulse (10/1000µs): 13.6A; Power Line Protection: No; Power - Peak Pulse: 600W; Type: Zener; Unidirectional Channels: 1; Voltage - Breakdown (Min): 31.1V; Part Number: SMA6J28A R3G; Applications: General Purpose; ComponentLink1Description: Datasheet; ComponentLink1URL: https://www.taiwansemi.com/products/datasheet/SMA6J%20SERIES_D15.pdf; ComponentLink2Description: DigiKey Link; ComponentLink2URL: http://digikey.com/product-detail/en/taiwan-semiconductor-corporation/SMA6J28A-R3G/SMA6J28AR3GCT-ND/7358769; LastUpdated: 9/2/2020 1:20:16 AM; Lifecycle Status: Active; Minimum Order: 0; Mounting Type: Surface Mount; Operating Temperature: -55°C ~ 175°C (TJ); Package / Case: DO-214AC, SMA; Packaging: TapeAndReel; PartId: 5917; Part Status: Active; Price: 0.12; Series: SMA6J; Supplier 1: DigiKey; Supplier Part Number 1: SMA6J28AR3GCT-ND; Supplier Device Package: DO-214AC (SMA); Voltage - Clamping (Max) @ Ipp: 44V; Voltage - Reverse Standoff (Typ): 28V
footprint DO214AC SMA
pins: 1, 2

## SMA6J28A-TR
designator D?
TVS DIODE 28V 51.6V SMA; Manufacturer: STMicroelectronics; Current - Peak Pulse (10/1000µs): 68A (8/20µs); Power Line Protection: No; Power - Peak Pulse: 600W; Type: Zener; Unidirectional Channels: 1; Voltage - Breakdown (Min): 31.1V; Part Number: SMA6J28A-TR; Applications: General Purpose; ComponentLink1Description: Datasheet; ComponentLink1URL: http://www.st.com/content/ccc/resource/technical/document/datasheet/56/26/d7/6f/22/8c/4e/b3/CD00152688.pdf/files/CD00152688.pdf/_jcr_content/translations/en.CD00152688.pdf; ComponentLink2Description: DigiKey Link; ComponentLink2URL: http://digikey.com/product-detail/en/stmicroelectronics/SMA6J28A-TR/497-5931-1-ND/1578437; LastUpdated: 9/2/2020 1:20:14 AM; Lifecycle Status: Active; Minimum Order: 1; Mounting Type: Surface Mount; Operating Temperature: -55°C ~ 175°C (TJ); Package / Case: DO-214AC, SMA; Packaging: TapeAndReel; PartId: 5694; Part Status: Active; Price: 0.16; Series: SMA6J, TRANSIL™; Supplier 1: DigiKey; Supplier Part Number 1: 497-5931-1-ND; Supplier Device Package: SMA (DO-214AC); Voltage - Clamping (Max) @ Ipp: 51.6V; Voltage - Reverse Standoff (Typ): 28V
footprint DO214AC SMA
pins: 1, 2

## SMA6J28AHR3G
designator D?
TVS DIODE 28V 44V DO214AC; Manufacturer: Taiwan Semiconductor Corporation; Current - Peak Pulse (10/1000µs): 13.6A; Power Line Protection: No; Power - Peak Pulse: 600W; Type: Zener; Unidirectional Channels: 1; Voltage - Breakdown (Min): 31.1V; Part Number: SMA6J28AHR3G; Applications: Automotive; ComponentLink1Description: Datasheet; ComponentLink1URL: https://www.taiwansemi.com/products/datasheet/SMA6J%20SERIES_D15.pdf; ComponentLink2Description: DigiKey Link; ComponentLink2URL: http://digikey.com/product-detail/en/taiwan-semiconductor-corporation/SMA6J28AHR3G/SMA6J28AHR3GCT-ND/7358772; LastUpdated: 9/2/2020 1:20:15 AM; Lifecycle Status: Active; Minimum Order: 1; Mounting Type: Surface Mount; Operating Temperature: -55°C ~ 175°C (TJ); Package / Case: DO-214AC, SMA; Packaging: TapeAndReel; PartId: 5851; Part Status: Active; Price: 0.13; Series: Automotive, AEC-Q101, SMA6J; Supplier 1: DigiKey; Supplier Part Number 1: SMA6J28AHR3GCT-ND; Supplier Device Package: DO-214AC (SMA); Voltage - Clamping (Max) @ Ipp: 44V; Voltage - Reverse Standoff (Typ): 28V
footprint DO214AC SMA
pins: 1, 2

## SMA6J28CA-TR
designator D?
TVS DIODE 28V 51.6V SMA; Manufacturer: STMicroelectronics; Bidirectional Channels: 1; Current - Peak Pulse (10/1000µs): 68A (8/20µs); Power Line Protection: No; Power - Peak Pulse: 600W; Type: Zener; Voltage - Breakdown (Min): 31.1V; Part Number: SMA6J28CA-TR; Applications: General Purpose; ComponentLink1Description: Datasheet; ComponentLink1URL: http://www.st.com/content/ccc/resource/technical/document/datasheet/56/26/d7/6f/22/8c/4e/b3/CD00152688.pdf/files/CD00152688.pdf/_jcr_content/translations/en.CD00152688.pdf; ComponentLink2Description: DigiKey Link; ComponentLink2URL: http://digikey.com/product-detail/en/stmicroelectronics/SMA6J28CA-TR/497-7888-1-ND/1883785; LastUpdated: 9/2/2020 1:27:51 AM; Lifecycle Status: Active; Minimum Order: 1; Mounting Type: Surface Mount; Operating Temperature: -55°C ~ 175°C (TJ); Package / Case: DO-214AC, SMA; Packaging: TapeAndReel; PartId: 7384; Part Status: Active; Price: 0.15; Series: SMA6J, TRANSIL™; Supplier 1: DigiKey; Supplier Part Number 1: 497-7888-1-ND; Supplier Device Package: SMA (DO-214AC); Voltage - Clamping (Max) @ Ipp: 51.6V; Voltage - Reverse Standoff (Typ): 28V
footprint DO214AC SMA
pins: 1, 2

## SMA6J30A R3G
designator D?
TVS DIODE 30V 48.4V DO214AC; Manufacturer: Taiwan Semiconductor Corporation; Current - Peak Pulse (10/1000µs): 12.3A; Power Line Protection: No; Power - Peak Pulse: 600W; Type: Zener; Unidirectional Channels: 1; Voltage - Breakdown (Min): 33.3V; Part Number: SMA6J30A R3G; Applications: General Purpose; ComponentLink1Description: Datasheet; ComponentLink1URL: https://www.taiwansemi.com/products/datasheet/SMA6J%20SERIES_D15.pdf; ComponentLink2Description: DigiKey Link; ComponentLink2URL: http://digikey.com/product-detail/en/taiwan-semiconductor-corporation/SMA6J30A-R3G/SMA6J30AR3GCT-ND/7358775; LastUpdated: 9/2/2020 1:20:14 AM; Lifecycle Status: Active; Minimum Order: 1; Mounting Type: Surface Mount; Operating Temperature: -55°C ~ 175°C (TJ); Package / Case: DO-214AC, SMA; Packaging: TapeAndReel; PartId: 5679; Part Status: Active; Price: 0.12; Series: SMA6J; Supplier 1: DigiKey; Supplier Part Number 1: SMA6J30AR3GCT-ND; Supplier Device Package: DO-214AC (SMA); Voltage - Clamping (Max) @ Ipp: 48.4V; Voltage - Reverse Standoff (Typ): 30V
footprint DO214AC SMA
pins: 1, 2

## SMA6J30AHR3G
designator D?
TVS DIODE 30V 48.4V DO214AC; Manufacturer: Taiwan Semiconductor Corporation; Current - Peak Pulse (10/1000µs): 12.3A; Power Line Protection: No; Power - Peak Pulse: 600W; Type: Zener; Unidirectional Channels: 1; Voltage - Breakdown (Min): 33.3V; Part Number: SMA6J30AHR3G; Applications: Automotive; ComponentLink1Description: Datasheet; ComponentLink1URL: https://www.taiwansemi.com/products/datasheet/SMA6J%20SERIES_D15.pdf; ComponentLink2Description: DigiKey Link; ComponentLink2URL: http://digikey.com/product-detail/en/taiwan-semiconductor-corporation/SMA6J30AHR3G/SMA6J30AHR3GCT-ND/7358778; LastUpdated: 9/2/2020 1:20:14 AM; Lifecycle Status: Active; Minimum Order: 1; Mounting Type: Surface Mount; Operating Temperature: -55°C ~ 175°C (TJ); Package / Case: DO-214AC, SMA; Packaging: TapeAndReel; PartId: 5670; Part Status: Active; Price: 0.13; Series: Automotive, AEC-Q101, SMA6J; Supplier 1: DigiKey; Supplier Part Number 1: SMA6J30AHR3GCT-ND; Supplier Device Package: DO-214AC (SMA); Voltage - Clamping (Max) @ Ipp: 48.4V; Voltage - Reverse Standoff (Typ): 30V
footprint DO214AC SMA
pins: 1, 2

## SMA6J33A-TR
designator D?
TVS DIODE 33V 60.8V SMA; Manufacturer: STMicroelectronics; Current - Peak Pulse (10/1000µs): 57A (8/20µs); Power Line Protection: No; Power - Peak Pulse: 600W; Type: Zener; Unidirectional Channels: 1; Voltage - Breakdown (Min): 36.7V; Part Number: SMA6J33A-TR; Applications: General Purpose; ComponentLink1Description: Datasheet; ComponentLink1URL: http://www.st.com/content/ccc/resource/technical/document/datasheet/56/26/d7/6f/22/8c/4e/b3/CD00152688.pdf/files/CD00152688.pdf/_jcr_content/translations/en.CD00152688.pdf; ComponentLink2Description: DigiKey Link; ComponentLink2URL: http://digikey.com/product-detail/en/stmicroelectronics/SMA6J33A-TR/497-5932-1-ND/1578438; LastUpdated: 9/2/2020 1:20:17 AM; Lifecycle Status: Active; Minimum Order: 1; Mounting Type: Surface Mount; Operating Temperature: -55°C ~ 175°C (TJ); Package / Case: DO-214AC, SMA; Packaging: TapeAndReel; PartId: 6112; Part Status: Active; Price: 0.15; Series: SMA6J, TRANSIL™; Supplier 1: DigiKey; Supplier Part Number 1: 497-5932-1-ND; Supplier Device Package: SMA (DO-214AC); Voltage - Clamping (Max) @ Ipp: 60.8V; Voltage - Reverse Standoff (Typ): 33V
footprint DO214AC SMA
pins: 1, 2

## SMA6J33CA
designator D?
TVS DIODES SMA 600W TR; Manufacturer: Littelfuse Inc.; Bidirectional Channels: 1; Current - Peak Pulse (10/1000µs): 11.8A; Power Line Protection: No; Type: Zener; Voltage - Breakdown (Min): 36.7V; Voltage - Clamping (Max) @ Ipp: 53.3V; Voltage - Reverse Standoff (Typ): 33V; Part Number: SMA6J33CA; Applications: General Purpose; ComponentLink1Description: Datasheet; ComponentLink1URL: https://www.littelfuse.com/~/media/electronics/datasheets/tvs_diodes/littelfuse_tvs_diode_sma6j_datasheet.pdf.pdf; ComponentLink2Description: DigiKey Link; ComponentLink2URL: http://digikey.com/product-detail/en/littelfuse-inc/SMA6J33CA/18-SMA6J33CACT-ND/12756469; LastUpdated: 8/30/2020 9:07:23 PM; Lifecycle Status: Active; Minimum Order: 1; Mounting Type: Surface Mount; Package / Case: DO-214AC, SMA; Packaging: TapeAndReel; PartId: 11475; Power - Peak Pulse: 600W; Price: 0.13; Series: SMA6J; Supplier 1: DigiKey; Supplier Part Number 1: 18-SMA6J33CACT-ND; Supplier Device Package: DO-214AC (SMA)
footprint DO214AC SMA
pins: 1, 2

## SMA6J33CA-TR
designator D?
TVS DIODE 33V 60.8V SMA; Manufacturer: STMicroelectronics; Bidirectional Channels: 1; Current - Peak Pulse (10/1000µs): 57A (8/20µs); Power Line Protection: No; Power - Peak Pulse: 600W; Type: Zener; Voltage - Breakdown (Min): 36.7V; Part Number: SMA6J33CA-TR; Applications: General Purpose; ComponentLink1Description: Datasheet; ComponentLink1URL: http://www.st.com/content/ccc/resource/technical/document/datasheet/56/26/d7/6f/22/8c/4e/b3/CD00152688.pdf/files/CD00152688.pdf/_jcr_content/translations/en.CD00152688.pdf; ComponentLink2Description: DigiKey Link; ComponentLink2URL: http://digikey.com/product-detail/en/stmicroelectronics/SMA6J33CA-TR/497-5933-1-ND/1578439; LastUpdated: 9/2/2020 1:27:52 AM; Lifecycle Status: Active; Minimum Order: 1; Mounting Type: Surface Mount; Operating Temperature: -55°C ~ 175°C (TJ); Package / Case: DO-214AC, SMA; Packaging: TapeAndReel; PartId: 7476; Part Status: Active; Price: 0.17; Series: SMA6J, TRANSIL™; Supplier 1: DigiKey; Supplier Part Number 1: 497-5933-1-ND; Supplier Device Package: SMA (DO-214AC); Voltage - Clamping (Max) @ Ipp: 60.8V; Voltage - Reverse Standoff (Typ): 33V
footprint DO214AC SMA
pins: 1, 2

## SMA6J40A-TR
designator D?
TVS DIODE 40V 73.6V SMA; Manufacturer: STMicroelectronics; Current - Peak Pulse (10/1000µs): 48A (8/20µs); Power Line Protection: No; Power - Peak Pulse: 600W; Type: Zener; Unidirectional Channels: 1; Voltage - Breakdown (Min): 44.4V; Part Number: SMA6J40A-TR; Applications: General Purpose; ComponentLink1Description: Datasheet; ComponentLink1URL: http://www.st.com/content/ccc/resource/technical/document/datasheet/56/26/d7/6f/22/8c/4e/b3/CD00152688.pdf/files/CD00152688.pdf/_jcr_content/translations/en.CD00152688.pdf; ComponentLink2Description: DigiKey Link; ComponentLink2URL: http://digikey.com/product-detail/en/stmicroelectronics/SMA6J40A-TR/497-5934-1-ND/1578440; LastUpdated: 9/2/2020 1:20:17 AM; Lifecycle Status: Active; Minimum Order: 1; Mounting Type: Surface Mount; Operating Temperature: -55°C ~ 175°C (TJ); Package / Case: DO-214AC, SMA; Packaging: TapeAndReel; PartId: 6103; Part Status: Active; Price: 0.15; Series: SMA6J, TRANSIL™; Supplier 1: DigiKey; Supplier Part Number 1: 497-5934-1-ND; Supplier Device Package: SMA (DO-214AC); Voltage - Clamping (Max) @ Ipp: 73.6V; Voltage - Reverse Standoff (Typ): 40V
footprint DO214AC SMA
pins: 1, 2

## SMA6J40CA-TR
designator D?
TVS DIODE 40V 73.6V SMA; Manufacturer: STMicroelectronics; Bidirectional Channels: 1; Current - Peak Pulse (10/1000µs): 48A (8/20µs); Power Line Protection: No; Power - Peak Pulse: 600W; Type: Zener; Voltage - Breakdown (Min): 44.4V; Part Number: SMA6J40CA-TR; Applications: General Purpose; ComponentLink1Description: Datasheet; ComponentLink1URL: http://www.st.com/content/ccc/resource/technical/document/datasheet/56/26/d7/6f/22/8c/4e/b3/CD00152688.pdf/files/CD00152688.pdf/_jcr_content/translations/en.CD00152688.pdf; ComponentLink2Description: DigiKey Link; ComponentLink2URL: http://digikey.com/product-detail/en/stmicroelectronics/SMA6J40CA-TR/497-5935-1-ND/1578441; LastUpdated: 9/2/2020 1:27:51 AM; Lifecycle Status: Active; Minimum Order: 1; Mounting Type: Surface Mount; Operating Temperature: -55°C ~ 175°C (TJ); Package / Case: DO-214AC, SMA; Packaging: TapeAndReel; PartId: 7387; Part Status: Active; Price: 0.08; Series: SMA6J, TRANSIL™; Supplier 1: DigiKey; Supplier Part Number 1: 497-5935-1-ND; Supplier Device Package: SMA (DO-214AC); Voltage - Clamping (Max) @ Ipp: 73.6V; Voltage - Reverse Standoff (Typ): 40V
footprint DO214AC SMA
pins: 1, 2

## SMA6J48A-TR
designator D?
TVS DIODE 48V 88.4V SMA; Manufacturer: STMicroelectronics; Current - Peak Pulse (10/1000µs): 40A (8/20µs); Power Line Protection: No; Power - Peak Pulse: 600W; Type: Zener; Unidirectional Channels: 1; Voltage - Breakdown (Min): 53.3V; Part Number: SMA6J48A-TR; Applications: General Purpose; ComponentLink1Description: Datasheet; ComponentLink1URL: http://www.st.com/content/ccc/resource/technical/document/datasheet/56/26/d7/6f/22/8c/4e/b3/CD00152688.pdf/files/CD00152688.pdf/_jcr_content/translations/en.CD00152688.pdf; ComponentLink2Description: DigiKey Link; ComponentLink2URL: http://digikey.com/product-detail/en/stmicroelectronics/SMA6J48A-TR/497-5936-1-ND/1578442; LastUpdated: 9/2/2020 1:20:14 AM; Lifecycle Status: Active; Minimum Order: 1; Mounting Type: Surface Mount; Operating Temperature: -55°C ~ 175°C (TJ); Package / Case: DO-214AC, SMA; Packaging: TapeAndReel; PartId: 5693; Part Status: Active; Price: 0.16; Series: SMA6J, TRANSIL™; Supplier 1: DigiKey; Supplier Part Number 1: 497-5936-1-ND; Supplier Device Package: SMA (DO-214AC); Voltage - Clamping (Max) @ Ipp: 88.4V; Voltage - Reverse Standoff (Typ): 48V
footprint DO214AC SMA
pins: 1, 2

## SMA6J48CA-TR
designator D?
TVS DIODE 48V 88.4V SMA; Manufacturer: STMicroelectronics; Bidirectional Channels: 1; Current - Peak Pulse (10/1000µs): 40A (8/20µs); Power Line Protection: No; Power - Peak Pulse: 600W; Type: Zener; Voltage - Breakdown (Min): 53.3V; Part Number: SMA6J48CA-TR; Applications: General Purpose; ComponentLink1Description: Datasheet; ComponentLink1URL: http://www.st.com/content/ccc/resource/technical/document/datasheet/56/26/d7/6f/22/8c/4e/b3/CD00152688.pdf/files/CD00152688.pdf/_jcr_content/translations/en.CD00152688.pdf; ComponentLink2Description: DigiKey Link; ComponentLink2URL: http://digikey.com/product-detail/en/stmicroelectronics/SMA6J48CA-TR/497-5937-1-ND/1578443; LastUpdated: 9/2/2020 1:27:51 AM; Lifecycle Status: Active; Minimum Order: 1; Mounting Type: Surface Mount; Operating Temperature: -55°C ~ 175°C (TJ); Package / Case: DO-214AC, SMA; Packaging: TapeAndReel; PartId: 7390; Part Status: Active; Price: 0.17; Series: SMA6J, TRANSIL™; Supplier 1: DigiKey; Supplier Part Number 1: 497-5937-1-ND; Supplier Device Package: SMA (DO-214AC); Voltage - Clamping (Max) @ Ipp: 88.4V; Voltage - Reverse Standoff (Typ): 48V
footprint DO214AC SMA
pins: 1, 2